# Altium schematic symbol library UVS-Schlib.SchLib: 52 symbols
Pins are listed as number, name and electrical type; pins without a type are passive.

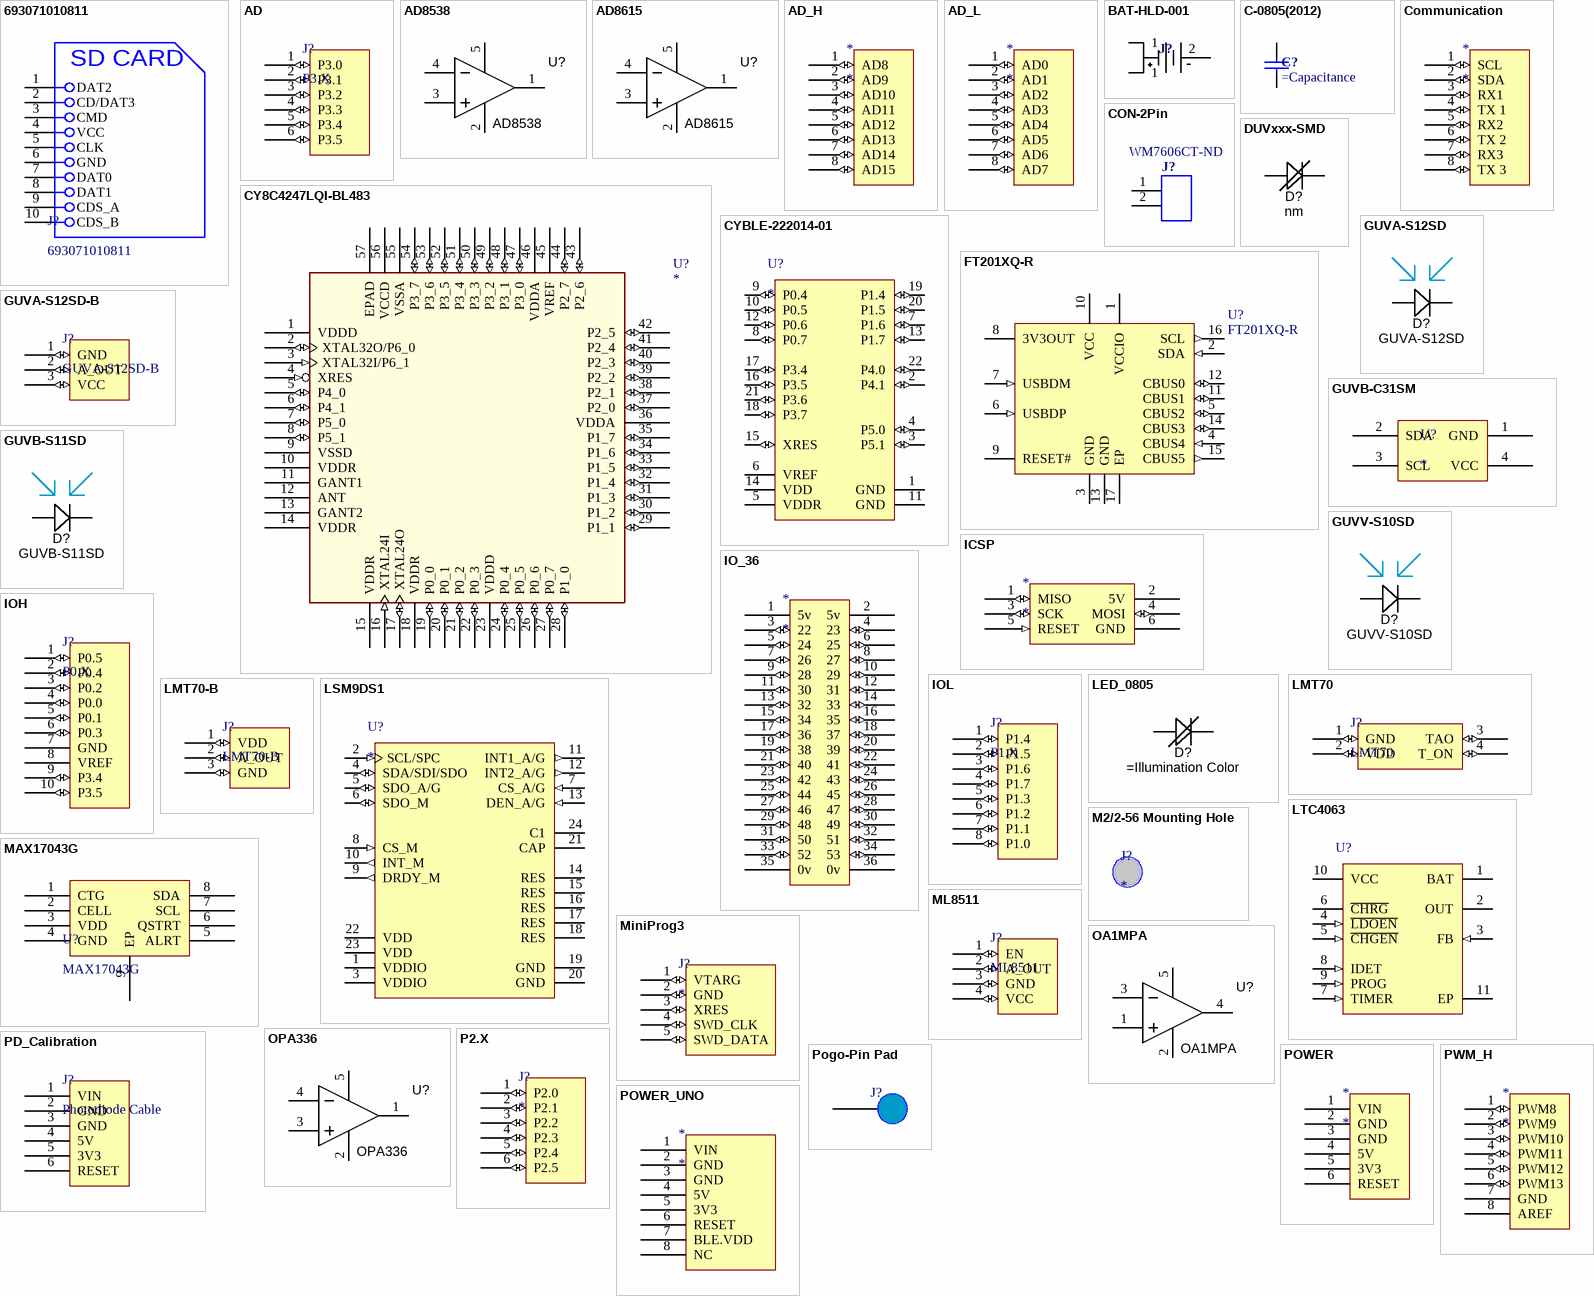
[diagram p0: symbols 693071010811 to PWM_H]

## 693071010811
designator J?
Wurth CONN MICRO SD CARD PUSH-PUSH R/A; Manufacturer: Wurth Electronics; Description 1: WURTH ELEKTRONIK         693071010811             CONNECTOR, MICRO SD, SMT, R/A, 8WAY; Connector Type: Connector; Number of Contacts: 8; Supplier 1: Digi-Key; Supplier Part Number 1: 732-3819-1-ND; Manufacturer Part Number: 693071010811; Stock 1: 4983; Pricing 1: 1=2.92, 10=2.856, 50=2.513, 100=2.399, 500=2.056 (USD); Mount: Surface Mount; Contact Material: Copper,Gold,Copper Alloy; Contact Plating: Gold; Min Operating Temperature: -25°C; Max Operating Temperature: 85°C; Package Quantity: 1; Packaging: Tape and Reel; Length: 14mm; Height: 1.98mm; Width: 15.2mm; REACH SVHC: Unknown; Lead Free: Lead Free; ComponentLink1URL: https://datasheet.ciiva.com/6935/693071010811-6935152.pdf; ComponentLink1Description: https://datasheet.ciiva.com/6935/693071010811-6935152.pdf; ComponentLink2URL: https://datasheet.ciiva.com/25605/0900766b81113f2e-25605369.pdf; ComponentLink2Description: https://datasheet.ciiva.com/25605/0900766b81113f2e-25605369.pdf; ComponentLink3URL: https://datasheet.ciiva.com/6935/693071010811-6935146.pdf; ComponentLink3Description: https://datasheet.ciiva.com/6935/693071010811-6935146.pdf; ComponentLink4URL: https://datasheet.ciiva.com/1104/1759178-1104796.pdf; ComponentLink4Description: https://datasheet.ciiva.com/1104/1759178-1104796.pdf
footprint 693071010811 (Wurth CONN MICRO SD CARD PUSH-PUSH R/A)
pins: 1     DAT2, 2     CD/DAT3, 3     CMD, 4     VCC, 5     CLK, 6     GND, 7     DAT0, 8     DAT1, 9     CDS_A, 10     CDS_B
text: SD CARD

## AD
designator J?, comment P3.X
footprint Header 6x1 8.5mm (Stackable 6 pin header)
pins: 1 P3.0 (io), 2 P3.1 (io), 3 P3.2 (io), 4 P3.3 (io), 5 P3.4 (io), 6 P3.5 (io)

## AD8538
designator U?
IC SMD Atuo-Zero Op Amp Precision, Low Power; Manufacturer: Analog Devices; Manufacturer Part Number: AD8538AUJZ-REEL7; Number of Channels: 1 Channel; Shutdown: No Shutdown; CMRR - Common Mode Rejection Ratio: 150 dB; en - Input Voltage Noise Density: 50 nV/sqrt Hz at 5 V; GBP - Gain Bandwidth Product: 430 kHz; Ib - Input Bias Current: 25 pA; Maximum Dual Supply Voltage: +/- 2.5 V; Minimum Dual Supply Voltage: +/- 1.35 V; Operating Supply Current: 180 uA; Operating Supply Voltage: 2.7 V to 5.5 V; PSRR - Power Supply Rejection Ratio: 125 dB; SR - Slew Rate: 0.4 V/us at 5 V; Supply Voltage - Max: 5.5 V; Supply Voltage - Min: 2.7 V; Voltage Gain dB: 141 dB; Vos - Input Offset Voltage: 5 uV; Supplier 1: Mouser; RoHS: RoHS Compliant; Category: Precision Amplifiers; Stock 1: 8750; Pricing 1: 1=1.39, 10=1.26, 25=1.12, 100=1.01, 250=0.900, 500=0.788, 1000=0.652, 3000=0.606, 6000=0.601 (USD); Height: 0.87 mm; Length: 2.9 mm; Package / Case: TSOT-5; Packaging: Reel; Product: Precision Amplifiers; Series: AD8538; Type: General Purpose Amplifier; Width: 1.6 mm; Brand: Analog Devices; Mounting Style: SMD/SMT; Maximum Operating Temperature: + 125 C; Minimum Operating Temperature: - 40 C; Standard Pack Qty: 3000; RoHS - Mouser: Y; Minimum Order Quantity: 1; Reeling: True; ComponentLink1URL: http://www.mouser.com/ds/2/609/AD8538_8539-877837.pdf; ComponentLink1Description: http://www.mouser.com/ds/2/609/AD8538_8539-877837.pdf; Supplier Part Number 1: 584-AD8538AUJZ-R7
footprint SOT23-5 (SOT23, 5-Leads, Body 2.9x1.7mm, Pitch 0.95mm, Lead Span 2.8mm, IPC Low Density)
pins: 1 OUT, 2 V-, 3 IN+, 4 IN-, 5 V+

## AD8615
designator U?
IC SMD Transimpedance Op Amp Precision; Manufacturer: Analog Devices; Manufacturer Part Number: AD8615AUJZ-REEL7; Output Type: Rail to Rail Input/Output; Input Voltage Range - Max: 5 V; Number of Channels: 1 Channel; Shutdown: No Shutdown; CMRR - Common Mode Rejection Ratio: 100 dB; en - Input Voltage Noise Density: 10 nV/sqrt Hz at 5 V; GBP - Gain Bandwidth Product: 24 MHz; Ib - Input Bias Current: 550 pA; Operating Supply Current: 1.7 mA; Operating Supply Voltage: 2.7 V to 5 V; Output Current per Channel: 150 mA; PSRR - Power Supply Rejection Ratio: 90 dB; SR - Slew Rate: 12 V/us; Supply Voltage - Min: 2.7 V; Voltage Gain dB: 123.52 dB; Vos - Input Offset Voltage: 80 uV; Supplier 1: Mouser; RoHS: RoHS Compliant; Category: Precision Amplifiers; Stock 1: 7346; Pricing 1: 1=2.11, 10=1.91, 25=1.71, 100=1.53, 250=1.36, 500=1.19, 1000=0.992, 3000=0.921, 6000=0.913 (USD); Height: 0.87 mm; Length: 2.9 mm; Package / Case: TSOT-5; Packaging: Reel; Product: Precision Amplifiers; Series: AD8615; Type: General Purpose Amplifier; Width: 1.6 mm; Brand: Analog Devices; Mounting Style: SMD/SMT; Maximum Operating Temperature: + 125 C; Minimum Operating Temperature: - 40 C; Standard Pack Qty: 3000; Supply Voltage - Max: 5 V; RoHS - Mouser: Y; Minimum Order Quantity: 1; Reeling: True; ComponentLink1URL: http://www.mouser.com/ds/2/609/AD8615_8616_8618-877841.pdf; ComponentLink1Description: http://www.mouser.com/ds/2/609/AD8615_8616_8618-877841.pdf; Supplier Part Number 1: 584-AD8615AUJZ-R7
footprint SOT23-5 (SOT23, 5-Leads, Body 2.9x1.7mm, Pitch 0.95mm, Lead Span 2.8mm, IPC Low Density)
pins: 1 OUT, 2 V-, 3 IN+, 4 IN-, 5 V+

## AD_H
designator *
footprint Header 8x1 8.5mm (Stackable 8 pin header)
pins: 1 AD8 (io), 2 AD9 (io), 3 AD10 (io), 4 AD11 (io), 5 AD12 (io), 6 AD13 (io), 7 AD14 (io), 8 AD15 (io)

## AD_L
designator *
footprint Header 8x1 8.5mm (Stackable 8 pin header)
pins: 1 AD0 (io), 2 AD1 (io), 3 AD2 (io), 4 AD3 (io), 5 AD4 (io), 6 AD5 (io), 7 AD6 (io), 8 AD7 (io)

## BAT-HLD-001
designator J?, comment Header 2 pin  (value not drawn)
Header, 2 pin, .1 pitch; Manufacturer: Linx; Manufacturer Part Number: BAT-HLD-001; Description 1: HOLDER BATTERY 20MM COIN; Number of Cells: 1; Supplier 1: Mouser; Supplier Part Number 1: 712-BAT-HLD-001; Stock 1: 81336; Pricing 1: 1=0.28, 10=0.28, 50=0.257, 100=0.233, 1000=0.204, 10000=0.183 (USD); Mount: Surface Mount,PCB; Package Quantity: 1000; Packaging: Bulk; Termination: SMD/SMT; Lead Free: Lead Free; ComponentLink1URL: https://datasheet.ciiva.com/4/bat-hld-001-4035.pdf; ComponentLink1Description: https://datasheet.ciiva.com/4/bat-hld-001-4035.pdf; ComponentLink2URL: https://datasheet.ciiva.com/4642/bat-hld-001-220194-4642567.pdf; ComponentLink2Description: https://datasheet.ciiva.com/4642/bat-hld-001-220194-4642567.pdf; ComponentLink3URL: https://datasheet.ciiva.com/16207/bat-hld-001-16207212.pdf; ComponentLink3Description: https://datasheet.ciiva.com/16207/bat-hld-001-16207212.pdf
footprint LINX_BATT_HLDR
pins: 1, 1, 2

## C-0805(2012)
designator C?
___ OHM ___ mW 0805(2012) SMD
footprint CAP-0805(2012)-R (Capacitor 0805(2012) Reflow)
pins: 1, 2

## Communication
designator *
footprint Header 8x1 8.5mm (Stackable 8 pin header)
pins: 1 SCL (io), 2 SDA (io), 3 RX1 (io), 4 TX 1 (io), 5 RX2 (io), 6 TX 2 (io), 7 RX3 (io), 8 TX 3 (io)

## CON-2Pin
designator J?, comment Supplier Part Number 1: WM7606CT-ND  (hidden comment: Header 2 pin)
Header, 2 pin, .1 pitch; Manufacturer: Molex, LLC; Manufacturer Part Number: 0533980271; Pitch - Mating: 0.049" (1.25mm); Style: Board to Cable/Wire; Shrouding: Shrouded - 3 Wall; Number of Positions: 2; Number of Positions Loaded: All; Material Flammability Rating: UL94 V-0; Supplier 1: Digi-Key; RoHS: RoHS Compliant; Category: Connectors, Interconnects; Stock 1: 38010; Pricing 1: 1=1.07, 10=0.941, 25=0.886, 50=0.849, 100=0.8122, 250=0.73832, 500=0.66448 (USD); Packaging: Cut Tape (CT); Part Status: Active; Connector Type: Header; Contact Type: Male Blade; Number of Rows: 1; Row Spacing - Mating: -; Mounting Type: Surface Mount; Termination: Solder; Fastening Type: Detent Lock; Contact Length - Mating: -; Contact Length - Post: -; Overall Contact Length: -; Insulation Height: 0.185" (4.70mm); Contact Shape: Rectangular; Contact Finish - Mating: Tin; Contact Finish Thickness - Mating: 39µin (1.00µm); Features: Solder Retention; Ingress Protection: -; Insulation Color: Natural; Contact Finish - Post: Tin; Contact Material: Phosphor Bronze; Insulation Material: Polyamide (PA), Nylon; Operating Temperature: -; Current Rating: -; Voltage Rating: -; Mated Stacking Heights: -; Contact Finish Thickness - Post: -; Applications: Automotive, General Purpose, Industrial, Medical; ComponentLink1URL: http://www.molex.com/pdm_docs/sd/533980271_sd.pdf; ComponentLink1Description: http://www.molex.com/pdm_docs/sd/533980271_sd.pdf
footprint WM7606CT-ND
pins: 1, 2

## CY8C4247LQI-BL483
designator U?
Manufacturer: Cypress; Manufacturer Part Number: CY8C4245LQI-483; Description 1: IC MCU 32BIT 32KB FLASH 40QFN; RAM Size: 4KB; Min Supply Voltage: 1.71V; Max Supply Voltage: 5.5V; Number of Timers/Counters: 4; Operating Supply Voltage: 1.8V; Frequency: 48MHz; Interface: I2C,SPI,UART; Data Bus Width: 32b; Number of I/Os: 34; Watchdog Timer: Yes; Memory Type: SRAM,FLASH; Memory Size: 32KB; Peripherals: PWM,I2C; Core Architecture: ARM; Supplier 1: Digi-Key; Supplier Part Number 1: CY8C4245LQI-483-ND; Stock 1: 11906; Pricing 1: 1=4.28, 10=3.825, 25=3.4424, 100=3.1365, 250=2.8305, 500=2.5398, 1000=2.142, 2500=2.0349, 5000=1.9584 (USD); Mount: Surface Mount; Case/Package: QFN EP; Number of Pins: 40; Weight: 0.004138oz; Contact Plating: Nickel,Gold; Min Operating Temperature: -40°C; Max Operating Temperature: 85°C; Packaging: Tray; Package Quantity: 490; Max Frequency: 48MHz; Radiation Hardening: No; REACH SVHC: No SVHC; Lead Free: Lead Free; ComponentLink1URL: https://datasheet.ciiva.com/26911/getdatasheetpartid-718692-26911745.pdf; ComponentLink1Description: https://datasheet.ciiva.com/26911/getdatasheetpartid-718692-26911745.pdf; ComponentLink2URL: https://datasheet.ciiva.com/22658/1699500-22658213.pdf; ComponentLink2Description: https://datasheet.ciiva.com/22658/1699500-22658213.pdf; ComponentLink3URL: https://datasheet.ciiva.com/16431/001-87197-16431545.pdf; ComponentLink3Description: https://datasheet.ciiva.com/16431/001-87197-16431545.pdf; ComponentLink4URL: https://datasheet.ciiva.com/30028/001-87197-30028665.pdf; ComponentLink4Description: https://datasheet.ciiva.com/30028/001-87197-30028665.pdf
footprint QFN40P700X700X60-57N
pins: 1 VDDD (power), 2 XTAL32O/P6_0 (io), 3 XTAL32I/P6_1 (in), 4 XRES (in), 5 P4_0 (io), 6 P4_1 (io), 7 P5_0 (io), 8 P5_1 (io), 9 VSSD (power), 10 VDDR (power), 11 GANT1 (power), 12 ANT, 13 GANT2 (power), 14 VDDR (power), 15 VDDR (power), 16 XTAL24I (in), 17 XTAL24O (io), 18 VDDR (power), 19 P0_0 (io), 20 P0_1 (io), 21 P0_2 (io), 22 P0_3 (io), 23 VDDD (power), 24 P0_4 (io), 25 P0_5 (io), 26 P0_6 (io), 27 P0_7 (io), 28 P1_0 (io), 29 P1_1 (io), 30 P1_2 (io), 31 P1_3 (io), 32 P1_4 (io), 33 P1_5 (io), 34 P1_6 (io), 35 P1_7 (io), 36 VDDA (power), 37 P2_0 (io), 38 P2_1 (io), 39 P2_2 (io), 40 P2_3 (io), 41 P2_4 (io), 42 P2_5 (io), 43 P2_6 (io), 44 P2_7 (io), 45 VREF (power), 46 VDDA (power), 47 P3_0 (io), 48 P3_1 (io), 49 P3_2 (io), 50 P3_3 (io), 51 P3_4 (io), 52 P3_5 (io), 53 P3_6 (io), 54 P3_7 (io), 55 VSSA (power), 56 VCCD (power), 57 EPAD (power)

## CYBLE-222014-01
designator U?
Manufacturer: Cypress; Manufacturer Part Number: CYBLE-222014-01; Description 1: Bluetooth Class II 1.8V to 5.5V 1000Kbps 22-Pin SMD T/R; Frequency: 2.4GHz; Data Rate: 1Mbps; Sensitivity: -91dBm; Memory Size: 32KB; Interface: I2C,SPI,UART; Current - Receiving: 16.4mA; Current - Transmitting: 15.6mA; Operating Supply Voltage: 5.5V; Supplier 1: Digi-Key; Supplier Part Number 1: 428-3583-1-ND; Stock 1: 1017; Pricing 1: 1=14.77, 10=13.367, 25=12.3112, 100=11.256, 250=10.5525 (USD); Mount: Surface Mount; Case/Package: SMD/SMT; Min Operating Temperature: -40°C; Max Operating Temperature: 85°C; Packaging: Tape and Reel; ComponentLink1URL: http://www.cypress.com/file/230691/download; ComponentLink1Description: http://www.cypress.com/file/230691/download
footprint CYP-SP21_V (Module, 2-Leads, Body 10x10mm)
pins: 1 GND (power), 2 P4.1 (io), 3 P5.1 (io), 4 P5.0 (io), 5 VDDR (power), 6 VREF (power), 7 P1.6 (io), 8 P0.7 (io), 9 P0.4 (io), 10 P0.5 (io), 11 GND (power), 12 P0.6 (io), 13 P1.7 (io), 14 VDD (power), 15 XRES (io), 16 P3.5 (io), 17 P3.4 (io), 18 P3.7 (io), 19 P1.4 (io), 20 P1.5 (io), 21 P3.6 (io), 22 P4.0 (io)

## DUVxxx-SMD
designator D?, comment nm
SMD 3020 UV Wavelength; Wavelength: 265/280/310/325/340; Category: Optoelectronics; Color: UV
footprint SMD 3020
pins: A, K

## FT201XQ-R
designator U?
USB to I2C Interface Chip, UHCI/OHCI/EHCI Compatible, USB 2.0 Compatible, -40 to +85 degC, 16-Pin QFN, Pb-Free, Tape and Reel; Manufacturer: FTDI; Description 1: IC USB FS I2C 16QFN; Operating Supply Voltage: 5.5V; Data Rate: 12Mbps; Interface: I2C,USB; Operating Supply Current: 8mA; Supplier 1: Digi-Key; Supplier Part Number 1: 768-1131-1-ND; Manufacturer Part Number: FT201XQ-R; Stock 1: 2248; Pricing 1: 1=2.04, 25=1.97, 100=1.9, 250=1.71, 500=1.54, 1000=1.4806 (USD); Mount: Surface Mount; Case/Package: QFN; Number of Pins: 16; Weight: 0.002014oz; Min Operating Temperature: -40°C; Max Operating Temperature: 85°C; Packaging: Tape and Reel; Package Quantity: 5000; Length: 4mm; Height: 0.75mm; Width: 4mm; Lead Free: Lead Free; ComponentLink1URL: https://datasheet.ciiva.com/14668/0900766b811020ab-14668386.pdf; ComponentLink1Description: https://datasheet.ciiva.com/14668/0900766b811020ab-14668386.pdf; ComponentLink2URL: https://datasheet.ciiva.com/1784/ft-x-series-1784572.pdf; ComponentLink2Description: https://datasheet.ciiva.com/1784/ft-x-series-1784572.pdf; ComponentLink3URL: https://datasheet.ciiva.com/1784/ft-x-series-1784573.pdf; ComponentLink3Description: https://datasheet.ciiva.com/1784/ft-x-series-1784573.pdf; ComponentLink4URL: https://datasheet.ciiva.com/1784/ft-x-series-1784574.pdf; ComponentLink4Description: https://datasheet.ciiva.com/1784/ft-x-series-1784574.pdf
footprint QFN-16
pins: 1 VCCIO (power) "1V8 -3V3 supply for the IO cells.", 2 SDA (in) "Receiving Asynchronous Data Input.", 3 GND (power) "0V Ground input.", 4 CBUS4 (in) "Clear To Send Control Input / Handshake Signal.", 5 CBUS2 (io) "Configurable CBUS I/O Pin. Function of this pin is configured in the device MTP memory. The default configuration is TXLED#.", 6 USBDP (in) "USB Data Signal Plus.", 7 USBDM (in) "USB Data Signal Minus.", 8 3V3OUT (power) "3V3 output at 50mA. May be used to power VCCIO. When VCC is 3V3; pin 8 is an input pin and should be connected to pin 10.", 9 RESET# "Reset input (active low).", 10 VCC (power) "5 V (or 3V3) supply to IC.", 11 CBUS1 (io) "Configurable CBUS I/O Pin. Function of this pin is configured in the device MTP memory. The default configuration is RXLED#.", 12 CBUS0 (io) "Configurable CBUS I/O Pin. Function of this pin is configured in the device MTP memory. The default configuration is TXDEN.", 13 GND (power) "0V Ground input.", 14 CBUS3 (io) "Configurable CBUS I/O Pin. Function of this pin is configured in the device MTP memory. The default configuration is SLEEP#.", 15 CBUS5 (out) "Request to Send Control Output / Handshake Signal.", 16 SCL (out) "Transmit Asynchronous Data Output.", 17 EP (power) "Exposed Pad. Connect to GND."

## GUVA-S12SD
designator D?
UV Photodiode, 3528 SMD
footprint SMD 3528
pins: A, K

## GUVA-S12SD-B
designator J?
UV Light Sensor Breakout Board
footprint Header 3x1 8.5mm (Stackable 3 pin header)
pins: 1 GND (io), 2 A_OUT (io), 3 VCC (io)

## GUVB-C31SM
designator U?
footprint GUVB-C31SM
pins: 1 GND, 2 SDA, 3 SCL, 4 VCC

## GUVB-S11SD
designator D?
UV Photodiode, 3528 SMD
footprint SMD 3528
pins: A, K

## GUVV-S10SD
designator D?
UV Photodiode, 3528 SMD
footprint SMD 3528
pins: A, K

## ICSP
designator *
footprint ICSP
pins: 1 MISO (io), 2 5V (power), 3 SCK (io), 4 MOSI (io), 5 RESET (in), 6 GND (power)

## IO_36
designator *
footprint HEADER 36X 8MM (Stackable 10 pin header)
pins: 1 5v (power), 2 5v (power), 3 22 (io) "Digital 22", 4 23 (io) "Digital 23", 5 24 (io) "Digital 24", 6 25 (io) "Digital 25", 7 26 (io) "Digital 26", 8 27 (io) "Digital 27", 9 28 (io) "Digital 28", 10 29 (io) "Digital 29", 11 30 (io) "Digital 30", 12 31 (io) "Digital 31", 13 32 (io) "Digital 32", 14 33 (io) "Digital 33", 15 34 (io) "Digital 34", 16 35 (io) "Digital 35", 17 36 (io) "Digital 36", 18 37 (io) "Digital 37", 19 38 (io) "Digital 38", 20 39 (io) "Digital 39", 21 40 (io) "Digital 40", 22 41 (io) "Digital 41", 23 42 (io) "Digital 42", 24 43 (io) "Digital 43", 25 44 (io) "Digital 44", 26 45 (io) "Digital 45", 27 46 (io) "Digital 46", 28 47 (io) "Digital 47", 29 48 (io) "Digital 48", 30 49 (io) "Digital 49", 31 50 (io) "Digital 50", 32 51 (io) "Digital 51", 33 52 (io) "Digital 52", 34 53 (io) "Digital 53", 35 0v (power), 36 0v (power)

## IOH
designator J?, comment P0.X
footprint Header 10x1 8.5mm (Stackable 10 pin header)
pins: 1 P0.5 (io), 2 P0.4 (io), 3 P0.2 (io), 4 P0.0 (io), 5 P0.1 (io), 6 P0.3 (io), 7 GND (power), 8 VREF, 9 P3.4 (io), 10 P3.5 (io)

## IOL
designator J?, comment P1.X
footprint Header 8x1 8.5mm (Stackable 8 pin header)
pins: 1 P1.4 (io), 2 P1.5 (io), 3 P1.6 (io), 4 P1.7 (io), 5 P1.3 (io), 6 P1.2 (io), 7 P1.1 (io), 8 P1.0 (io)

## LED_0805
designator D?
LED, 0805 SMD
footprint LED-0805-A
pins: A, K

## LMT70
designator J?
Precision Analog Temperature Sensor
pins: 1 GND (io), 2 VDD (io), 3 TAO (io), 4 T_ON (io)

## LMT70-B
designator J?
Precision Analog Temperature Sensor
footprint Header 3x1 8.5mm (Stackable 3 pin header)
pins: 1 VDD (io), 2 A_OUT (io), 3 GND (io)

## LSM9DS1
designator U?
Manufacturer: STMicroelectronics; Manufacturer Part Number: LSM9DS1TR; Description 1: STMICROELECTRONICS         LSM9DS1TR             MEMS Module, I2C/SPI, Tri-Axis Gyroscope, Tri-Axis Accelerometer, Tri-Axis Magnetometer, 1.9 V; Sensor Type: Accelerometer,Gyroscope,Magnetometer,3 Axis; Min Supply Voltage: 1.9V; Max Supply Voltage: 3.6V; Output Type: SPI,I2C; Supplier 1: Mouser; Supplier Part Number 1: 511-LSM9DS1TR; Stock 1: 5520; Pricing 1: 1=6.14, 10=5.55, 50=5.3, 100=4.6, 1000=3.49, 10000=3.1 (USD); Case/Package: LGA; Number of Pins: 24; Min Operating Temperature: -40°C; Max Operating Temperature: 85°C; Packaging: Cut Tape; Lead Free: Lead Free; REACH SVHC: No SVHC; ComponentLink1URL: http://www.farnell.com/datasheets/2028150.pdf; ComponentLink1Description: http://www.farnell.com/datasheets/2028150.pdf; ComponentLink2URL: http://www.st.com/content/ccc/resource/technical/document/datasheet/1e/3f/2a/d6/25/eb/48/46/DM00103319.pdf/files/DM00103319.pdf/jcr:content/translations/en.DM00103319.pdf; ComponentLink2Description: http://www.st.com/content/ccc/resource/technical/document/datasheet/1e/3f/2a/d6/25/eb/48/46/DM00103319.pdf/files/DM00103319.pdf/jcr:content/translations/en.DM00103319.pdf; ComponentLink3URL: https://www.mouser.com/ds/2/389/lsm9ds1-955071.pdf; ComponentLink3Description: https://www.mouser.com/ds/2/389/lsm9ds1-955071.pdf
footprint STM-LGA-24 (LGA, 24-Leads, Body 3.65x3.15mm, Pitch 0.43mm)
pins: 1 VDDIO (power) "Power supply for I/O pins", 2 SCL/SPC (in), 3 VDDIO (power) "Power supply for I/O pins", 4 SDA/SDI/SDO (io), 5 SDO_A/G (io), 6 SDO_M (io) "SPI serial data output (SDO) for the magnetometer. I2C least significant bit of the device address (SA0) for the magnetometer", 7 CS_A/G (in), 8 CS_M (in) "SPI enable. I2C/SPI mode selection for the magnetometer (1: SPI idle mode / I2C communication enabled; 0: SPI communication mode / I2C disabled)", 9 DRDY_M (out) "Magnetic sensor data ready", 10 INT_M (out) "Magnetic sensor interrupt", 11 INT1_A/G (out), 12 INT2_A/G (out), 13 DEN_A/G (in), 14 RES "Reserved. Connected to GND.", 15 RES "Reserved. Connected to GND.", 16 RES "Reserved. Connected to GND.", 17 RES "Reserved. Connected to GND.", 18 RES "Reserved. Connected to GND.", 19 GND (power) "0 V supply", 20 GND (power) "0 V supply", 21 CAP "Connected to GND with ceramic capacitor", 22 VDD (power) "Power supply", 23 VDD (power) "Power supply", 24 C1 "Capacitor connection (C1 = 100 nF)"

## LTC4063
designator U?
Manufacturer: Analog Devices / Linear Technology; Manufacturer Part Number: LTC4063EDD#PBF; Description 1: LINEAR TECHNOLOGY         LTC4063EDD#PBF            IC, BATT CHARGER, W/MP LDO, 10DFN; Number of Cells: 1; Max Supply Voltage: 8V; Min Supply Voltage: 4.3V; Output Current: 800uA; Output Voltage: 4.2V; Max Charge Current: 1A; Supplier 1: Digi-Key; Supplier Part Number 1: LTC4063EDD#PBF-ND; Stock 1: 576; Pricing 1: 1=4.36, 25=2.8928, 100=2.2848 (USD); Case/Package: DFN EP; Number of Pins: 10; Min Operating Temperature: -40°C; Max Operating Temperature: 85°C; Package Quantity: 121; Packaging: Rail/Tube; Max Input Voltage: 8V; Min Input Voltage: 4.3V; Radiation Hardening: No; REACH SVHC: No SVHC; Lead Free: Lead Free; ComponentLink1URL: https://datasheet.ciiva.com/1139/1716146-1139992.pdf; ComponentLink1Description: https://datasheet.ciiva.com/1139/1716146-1139992.pdf; ComponentLink2URL: https://datasheet.ciiva.com/1145/79586-1145020.pdf; ComponentLink2Description: https://datasheet.ciiva.com/1145/79586-1145020.pdf; ComponentLink3URL: https://datasheet.ciiva.com/15114/getdatasheetpartid-366882-15114670.pdf; ComponentLink3Description: https://datasheet.ciiva.com/15114/getdatasheetpartid-366882-15114670.pdf; ComponentLink4URL: https://datasheet.ciiva.com/48696/001255656-da-01-en-ic-batt-chrgr-ltc4063edd-pbf-dfn-10-ltc-48696044.pdf; ComponentLink4Description: https://datasheet.ciiva.com/48696/001255656-da-01-en-ic-batt-chrgr-ltc4063edd-pbf-dfn-10-ltc-48696044.pdf
footprint LT-DD-10_V (SON, 10-Leads, Body 3x3mm, Pitch 0.5mm, Thermal Pad 2.38x1.65mm)
pins: 1 BAT (power) "Charger Output and Regulator Input. This pin provides charge current to the battery and regulates the final float voltage to 4.2V. This pin also supplies power to the LDO regulator.", 2 OUT (power) "LDO Regulator Output. This pin should be bypassed with a >=2uF low ESR capacitor as close to the pin as possible for best performance. The minimum VOUT is 1.2V.", 3 FB (in) "Regulator Feedback Input. The voltage on this pin is compared to the internal reference voltage (800mV) by the error amplifier to keep the output voltage in regulation. An external resistor divider between OUT and FB sets (See Datasheet)", 4 ~{LDOEN} (in) "LDO Enable Input. A logic high on the L\D\O\E\N\ pin shuts down the LDO. In this state, OUT becomes high impedance and the battery drain current drops to less than 5uA. A logic low on the L\D\O\E\N\ pin enables the LDO (See Datasheet)", 5 ~{CHGEN} (in) "Charger Enable Input. A logic high on the C\H\G\E\N\ pin places the charger into shutdown mode, where the ICC quiescent current is less than 65uA. A logic low on this pin enables battery charging. A 2M pull-down resistor to (See Datasheet)", 6 ~{CHRG} (hiz) "Open-Drain Charge Status Output. The charge status indicator pin has two states: pull-down and high impedance. This output can be used as a logic interface or an LED driver. In the pull-down state, an NMOS transistor capable (See Datasheet)", 7 TIMER (in) "Timer Program and Termination Select Pin. This pin selects which method is used to terminate the charge cycle. Connecting a capacitor, CTIMER, to ground selects Charge Time termination.", 8 IDET (in) "Current Detection Threshold Program Pin. The current detection threshold, IDETECT, is set by connecting a resistor, RDET, to ground.", 9 PROG (in) "Charge Current Program and Charge Current Monitor. The charge current is set by connecting a resistor, RPROG, to ground. When charging in constant current mode, this pin servos to 1V.", 10 VCC (power) "Positive Input Supply Pin. Provides power to the battery charger. This pin should be bypassed with a 1uF capacitor.", 11 EP (power) "Ground. This pin is the back of the Exposed Pad package and must be soldered to the PCB copper for minimal thermal resistance."

## M2/2-56 Mounting Hole
designator J?
footprint Mounting Hole (M2 or 2-56 Mounting Hole)

## MAX17043G
designator U?
Manufacturer: Maxim; Manufacturer Part Number: MAX17043G+T; Description 1: IC 2-WIRE FG MODEL GAUGE LO BATT; Supplier 1: Mouser; Supplier Part Number 1: 700-MAX17043G+T; Stock 1: 10717; Pricing 1: 1=3.67, 10=3.52, 50=1.85, 100=1.7, 1000=1.66, 10000=1.66 (USD); Mount: Surface Mount; Number of Pins: 8; Contact Plating: Tin,Matte; Min Operating Temperature: -20°C; Max Operating Temperature: 70°C; Packaging: Tape and Reel; Package Quantity: 10000; Radiation Hardening: No; ComponentLink1URL: https://datasheet.ciiva.com/1935/max17043-max17044-1935697.pdf; ComponentLink1Description: https://datasheet.ciiva.com/1935/max17043-max17044-1935697.pdf
footprint TDFN-MN8 (SON, 8-Leads, Body 2x3mm, Pitch 0.5mm, Microchip Recommended)
pins: 1 CTG, 2 CELL, 3 VDD, 4 GND, 5 ALRT, 6 QSTRT, 7 SCL, 8 SDA, 9 EP

## MiniProg3
designator J?
footprint Header 5x1 8.5mm (Stackable 5 pin header)
pins: 1 VTARG (io), 2 GND (io), 3 XRES (io), 4 SWD_CLK (io), 5 SWD_DATA (io)

## ML8511
designator J?
UV Light Sensor Breakout Board
footprint Header 4x1 8.5mm (Stackable 4 pin header)
pins: 1 EN (io), 2 A_OUT (io), 3 GND (io), 4 VCC (io)

## OA1MPA
designator U?
Manufacturer: STMicroelectronics; Manufacturer Part Number: OA1MPA22C; Slew Rate: 0.06V/µs; Number of Circuits: 1; Gain Bandwidth Product: 150KHz; Input Bias Current: 1pA; Input Offset Voltage (Vos): 200uV; Operating Supply Current: 10uA; Output Current per Channel: 56mA; Supply Voltage: 5.5V; Supplier 1: Mouser; Stock 1: 242; Pricing 1: 1=1.27, 10=1.08, 50=1.08, 100=0.832, 1000=0.58, 10000=0.494 (USD); Case/Package: SC; Number of Pins: 5; Min Operating Temperature: -40°C; Max Operating Temperature: 125°C; Package Quantity: 3000; Packaging: Tape and Reel; Bandwidth: 150KHz; Number of Amplifiers: 1; Length: 2.2mm; Height: 1mm; Width: 1.35mm; REACH SVHC: No SVHC; Lead Free: Lead Free; ComponentLink1Description: https://datasheet.ciiva.com/29638/dm00109015-29638347.pdf; Supplier Part Number 1: 511-OA1MPA22C
footprint SC70-5L (SC70, 5-Leads, Body 2.20x2.7mm, Pitch 0.65mm)
pins: 1 OUT, 2 V-, 3 IN+, 4 IN-, 5 V+

## OPA336
designator U?
Manufacturer: Texas Instruments; Manufacturer Part Number: OPA336NA/3K; Amplifier Type: Low Power Amplifier; Input Type: Rail-to-Rail; Supply Type: Single; Number of Channels: 1 Channel; Shutdown: No Shutdown; CMRR - Common Mode Rejection Ratio: 76 dB to 86 dB; en - Input Voltage Noise Density: 40 nV/sqrt Hz; GBP - Gain Bandwidth Product: 100 kHz; Ib - Input Bias Current: 10 pA; In - Input Noise Current Density: 30 fA/sqrt Hz; Operating Supply Current: 20 uA; Operating Supply Voltage: 2.3 V to 5.5 V; PSRR - Power Supply Rejection Ratio: 25 uV/V; SR - Slew Rate: 0.03 V/us; Supply Voltage - Max: 5.5 V; Supply Voltage - Min: 2.3 V; Voltage Gain dB: 115 dB; Vos - Input Offset Voltage: 0.125 mV; Supplier 1: Mouser; RoHS: RoHS Compliant; Category: Operational Amplifiers - Op Amps; Stock 1: 11756; Pricing 1: 1=1.72, 10=1.55, 25=1.47, 100=1.24, 250=1.17, 500=1.02, 1000=0.731, 3000=0.731 (USD); Height: 1.15 mm; Length: 2.9 mm; Output Type: Rail-to-Rail; Package / Case: SOT-23-5; Packaging: Reel; Product: Precision Amplifiers; Series: OPA336; Technology: CMOS; Width: 1.6 mm; Brand: Texas Instruments; Mounting Style: SMD/SMT; Ios - Input Offset Current: 10 pA; Maximum Operating Temperature: + 85 C; Minimum Operating Temperature: - 40 C; Standard Pack Qty: 3000; RoHS - Mouser: Y; Minimum Order Quantity: 1; Reeling: True; Supplier Part Number 1: 595-OPA336NA/3K
footprint SOT23-5 (SOT23, 5-Leads, Body 2.9x1.7mm, Pitch 0.95mm, Lead Span 2.8mm, IPC Low Density)
pins: 1 OUT, 2 V-, 3 IN+, 4 IN-, 5 V+

## P2.X
designator J?
footprint Header 6x1 8.5mm (Stackable 6 pin header)
pins: 1 P2.0 (io), 2 P2.1 (io), 3 P2.2 (io), 4 P2.3 (io), 5 P2.4 (io), 6 P2.5 (io)

## PD_Calibration
designator J?, comment Photodiode Cable
footprint Header 6x1 8.5mm (Stackable 6 pin header)
pins: 1 VIN (power), 2 GND (power), 3 GND (power), 4 5V (power), 5 3V3 (power), 6 RESET

## Pogo-Pin Pad
designator J?  (value not drawn)
Manufacturer: Harwin; Manufacturer Part Number: P13-2123; Description 1: HARWIN         P13-2123             PROBE, CONVEX, 1.27MM PITCH; Body Material: Bronze; Body Plating: Gold; Resistance: 0.03R; Current Rating: 3A; Contact Resistance: 30mR; Gender: Male; Mating Cycles: 1000000; Supplier 1: Mouser; Supplier Part Number 1: 855-P13-2123; Stock 1: 1373; Pricing 1: 1=3.36, 10=3.22, 50=2.82, 100=2.69, 1000=1.95, 10000=1.82 (USD); Material: Bronze; Contact Material: Copper; Min Operating Temperature: -40°C; Max Operating Temperature: 85°C; Package Quantity: 500; Length: 0.652inch; Depth: 1mm; Radiation Hardening: No; REACH SVHC: No SVHC; ComponentLink1URL: https://datasheet.ciiva.com/1454/1498711-1454531.pdf; ComponentLink1Description: https://datasheet.ciiva.com/1454/1498711-1454531.pdf; ComponentLink2URL: https://datasheet.ciiva.com/5229/p13-xx23-351008-5229722.pdf; ComponentLink2Description: https://datasheet.ciiva.com/5229/p13-xx23-351008-5229722.pdf
footprint Pogo-Pin-Hole
pins: 1

## POWER
designator *
footprint Header 6x1 8.5mm (Stackable 6 pin header)
pins: 1 VIN (power), 2 GND (power), 3 GND (power), 4 5V (power), 5 3V3 (power), 6 RESET

## POWER_UNO
designator *
footprint Header 8x1 8.5mm (Stackable 8 pin header)
pins: 1 VIN (power), 2 GND (power), 3 GND (power), 4 5V (power), 5 3V3 (power), 6 RESET, 7 BLE.VDD (power) "IOREF", 8 NC

## PWM_H
designator *
footprint Header 8x1 8.5mm (Stackable 8 pin header)
pins: 1 PWM8 (io) "PWM 8", 2 PWM9 (io) "PWM 9", 3 PWM10 (io) "PWM 10", 4 PWM11 (io) "PWM 11", 5 PWM12 (io) "PWM 12", 6 PWM13 (io) "PWM 13", 7 GND (power), 8 AREF

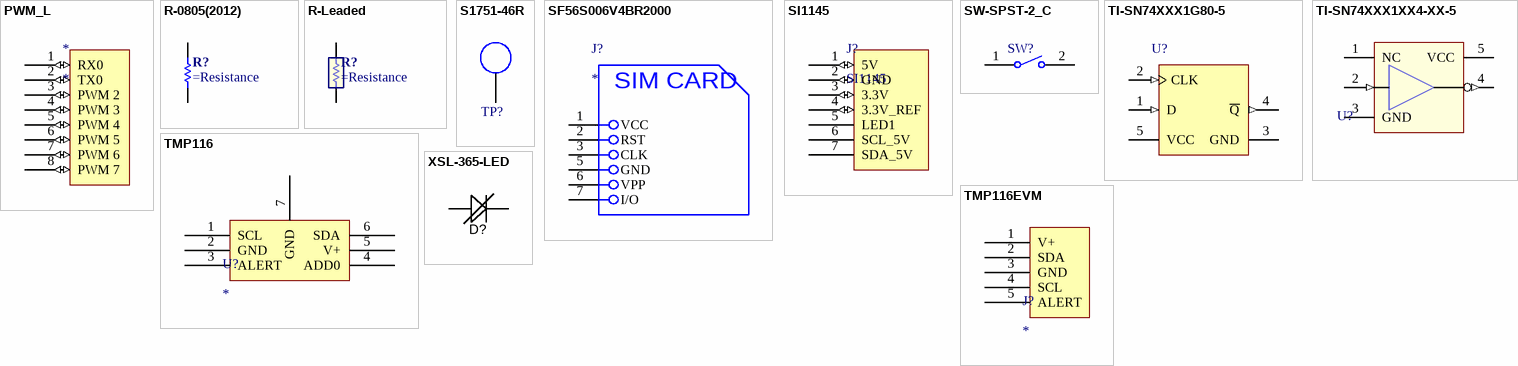
[diagram p1: symbols PWM_L to XSL-365-LED]

## PWM_L
designator *
footprint Header 8x1 8.5mm (Stackable 8 pin header)
pins: 1 RX0 (io) "PWM 0 & RX0", 2 TX0 (io) "PWM 1 & TX0", 3 PWM 2 (io), 4 PWM 3 (io), 5 PWM 4 (io), 6 PWM 5 (io), 7 PWM 6 (io), 8 PWM 7 (io)

## R-0805(2012)
designator R?
___ OHM ___ mW 0805(2012) SMD
footprint R-0805(2012)-R (Resistor 0805(2012) Reflow)
pins: 1, 2

## R-Leaded
designator R?
___ OHM ___ mW Leaded
footprint R-Leaded (250 mW Leaded Resistor)
pins: 1, 2

## S1751-46R
designator TP?  (value not drawn)
PC TEST POINT TIN SMD; Manufacturer: Harwin Inc.; Supplier 1: Digi-Key; RoHS: RoHS Compliant; Stock 1: 275112; Pricing 1: 1=0.29, 10=0.272, 25=0.2324, 50=0.2032, 100=0.1888, 250=0.167, 500=0.15972, 1000=0.13068 (USD); Packaging: Cut Tape (CT); Type: PC Test Point; Terminal: 0.128" x 0.065" x 0.079" (3.25mm x 1.65mm x 2.00mm) Brass, Tin Plated; Mounting Type: Surface Mount; Material: Copper Alloy; Color: Natural; ComponentLink1URL: http://cdn.harwin.com/pdfs/S1751.pdf; ComponentLink1Description: http://cdn.harwin.com/pdfs/S1751.pdf; Supplier Part Number 1: 952-1478-1-ND; Manufacturer Part Number: S1751-46R; Category: Test and Measurement
footprint S1751-46R (PC TEST POINT TIN SMD)
pins: 1

## SF56S006V4BR2000
designator J?
Micro SIM Connector Push-Push
footprint 5033981892 (Micro SD, 8-Leads, Body 11.95x11.4mm, Pitch 1.1mm)
pins: 1     VCC, 2     RST, 3     CLK, 5     GND, 6     VPP, 7     I/O
text: SIM CARD

## SI1145
designator J?
UV Light Sensor Digital
footprint Header 7x1 8.5mm (Stackable 7 pin header)
pins: 1 5V (io), 2 GND (io), 3 3.3V (io), 4 3.3V_REF (io), 5 LED1, 6 SCL_5V, 7 SDA_5V

## SW-SPST-2_C
designator SW?  (value not drawn)
Manufacturer: Omron; Manufacturer Part Number: B3U-3000P; Description 1: OMRON ELECTRONIC COMPONENTS         B3U-3000P            Tactile Switch, Non Illuminated, 1.59 N, 12 V, 50 mA, Solder, B3U Series; Mechanical Life: 100000Cycles; Operating Force: 1.59N; Contact Resistance: 100mR; Throw Configuration: SPST; Max Current Rating: 50mA; Voltage Rating (DC): 12V; Illumination Type: Non-Illuminated,Illuminated; Switch Travel: 0.2mm; Switch Function: Off-Mom; Actuator Length: 0.7mm; IP Rating: IP40,Dust Proof; Supplier 1: Mouser; Supplier Part Number 1: 653-B3U-3000P; Stock 1: 4217; Pricing 1: 1=0.97, 10=0.961, 50=0.798, 100=0.725, 1000=0.526, 10000=0.445 (USD); Mount: Surface Mount; Weight: 0.022g; Contact Material: Silver; Min Operating Temperature: -25°C; Max Operating Temperature: 70°C; Packaging: Tape and Reel; Package Quantity: 1; Max Voltage Rating (DC): 12V; Contact Current Rating: 50mA; Current Rating: 50mA; Termination: SMD/SMT; Electrical Life: 100000Cycles; Orientation: Right Angle; Insulation Resistance: 100MR; Length: 4mm; Depth: 3.2mm; REACH SVHC: Unknown; Lead Free: Lead Free; ComponentLink1URL: https://datasheet.ciiva.com/1634/60838-1634400.pdf; ComponentLink1Description: https://datasheet.ciiva.com/1634/60838-1634400.pdf; ComponentLink2URL: https://datasheet.ciiva.com/2900/b3u-1110-2900035.pdf; ComponentLink2Description: https://datasheet.ciiva.com/2900/b3u-1110-2900035.pdf; ComponentLink3URL: https://datasheet.ciiva.com/2900/b3u-1110-2900036.pdf; ComponentLink3Description: https://datasheet.ciiva.com/2900/b3u-1110-2900036.pdf; ComponentLink4URL: https://datasheet.ciiva.com/2900/b3u-1110-2900037.pdf; ComponentLink4Description: https://datasheet.ciiva.com/2900/b3u-1110-2900037.pdf; ComponentLink5URL: https://datasheet.ciiva.com/1532/60838-1532682.pdf; ComponentLink5Description: https://datasheet.ciiva.com/1532/60838-1532682.pdf; ComponentLink6URL: https://datasheet.ciiva.com/16863/70176037-16863994.pdf; ComponentLink6Description: https://datasheet.ciiva.com/16863/70176037-16863994.pdf; ComponentLink7URL: https://datasheet.ciiva.com/14142/b3u-eng-datasheet-14142542.pdf; ComponentLink7Description: https://datasheet.ciiva.com/14142/b3u-eng-datasheet-14142542.pdf; ComponentLink8URL: https://datasheet.ciiva.com/30158/en-b3u-30158606.pdf; ComponentLink8Description: https://datasheet.ciiva.com/30158/en-b3u-30158606.pdf
footprint OMRON-B3U-3000P_V (SMD, 2-Leads, Body 4x3.2mm)
pins: 1, 2

## TI-SN74XXX1G80-5
designator U?
Manufacturer: Texas Instruments; Manufacturer Part Number: SN74AUP1G80DBVR; Description 1: IC D-TYPE POS TRG SNGL SOT23-5; Frequency: 280MHz; Propagation Delay: 17.7ns; Polarity: Inverting; Number of Bits: 1; Logic Function: D-Type; Clock Edge Trigger Type: Positive Edge; Max Supply Voltage: 3.6V; Min Supply Voltage: 800mV; Turn-On Delay Time: 3.1ns; High Level Output Current: -4mA; Low Level Output Current: 4mA; Supplier 1: Mouser; Supplier Part Number 1: 595-SN74AUP1G80DBVR; Stock 1: 3731; Pricing 1: 1=0.35, 10=0.266, 50=0.266, 100=0.144, 1000=0.108, 10000=0.087 (USD); Mount: Surface Mount; Case/Package: SOT-23; Number of Pins: 5; Weight: 0.000395oz; Min Operating Temperature: -40°C; Max Operating Temperature: 85°C; Packaging: Tape and Reel; Number of Outputs: 1; Package Quantity: 3000; Number of Elements: 1; Number of Bits per Element: 1; Number of Circuits: 1; Number of Input Lines: 1; Number of Output Lines: 1; Radiation Hardening: No; REACH SVHC: No SVHC; Lead Free: Lead Free; ComponentLink1URL: https://datasheet.ciiva.com/15091/getdatasheetpartid-194395-15091600.pdf; ComponentLink1Description: https://datasheet.ciiva.com/15091/getdatasheetpartid-194395-15091600.pdf; ComponentLink2URL: https://datasheet.ciiva.com/1854/sn74aup1g80-1854806.pdf; ComponentLink2Description: https://datasheet.ciiva.com/1854/sn74aup1g80-1854806.pdf; ComponentLink3URL: https://datasheet.ciiva.com/1854/sn74aup1g80-1854807.pdf; ComponentLink3Description: https://datasheet.ciiva.com/1854/sn74aup1g80-1854807.pdf; ComponentLink4URL: https://datasheet.ciiva.com/1854/sn74aup1g80-1854808.pdf; ComponentLink4Description: https://datasheet.ciiva.com/1854/sn74aup1g80-1854808.pdf; ComponentLink5URL: https://datasheet.ciiva.com/14313/sces593e-14313482.pdf; ComponentLink5Description: https://datasheet.ciiva.com/14313/sces593e-14313482.pdf; ComponentLink6URL: https://datasheet.ciiva.com/14292/sn74aup1g80-14292862.pdf; ComponentLink6Description: https://datasheet.ciiva.com/14292/sn74aup1g80-14292862.pdf
footprint DBV0005A_L (SOT23, 5-Leads, Body 3.05x1.75mm, Pitch 0.95mm, IPC High Density)
pins: 1 D (in), 2 CLK (in), 3 GND (power), 4 ~{Q} (out), 5 VCC (power)

## TI-SN74XXX1XX4-XX-5
designator U?
SN74AHC1G04DBVR; Manufacturer: Texas Instruments; Description 1: IC SINGLE INVERTER GATE SOT23-5; Logic Function: Buffer,Inverter,Inverting; Number of Elements: 1; Max Output Current: 8mA; Max Supply Voltage: 5.5V; Min Supply Voltage: 2V; Propagation Delay: 7.5ns; Quiescent Current: 1uA; High Level Output Current: -8mA; Turn-On Delay Time: 12ns; Schmitt Trigger Input: No; Supplier 1: Mouser; Supplier Part Number 1: 595-SN74AHC1G04DBVR; Manufacturer Part Number: SN74AHC1G04DBVR; Stock 1: 27929; Pricing 1: 1=0.43, 10=0.289, 50=0.289, 100=0.137, 1000=0.106, 10000=0.08 (USD); Mount: Surface Mount; Case/Package: SOT-23; Number of Pins: 5; Weight: 0.000557oz; Contact Plating: Tin,Matte; Min Operating Temperature: -40°C; Max Operating Temperature: 125°C; Packaging: Tape and Reel; Package Quantity: 1; Number of Inputs: 1; Output Current: 8mA; Number of Gates: 1; Number of Circuits: 1; Low Level Output Current: 8mA; Termination: SMD/SMT; Number of Bits: 1; Length: 2.9mm; Height: 1.15mm; Width: 1.6mm; Radiation Hardening: No; REACH SVHC: No SVHC; Lead Free: Lead Free; ComponentLink1URL: https://datasheet.ciiva.com/4827/scls318q-100390-4827313.pdf; ComponentLink1Description: https://datasheet.ciiva.com/4827/scls318q-100390-4827313.pdf; ComponentLink2URL: https://datasheet.ciiva.com/1864/sn74ahc1g04-1864386.pdf; ComponentLink2Description: https://datasheet.ciiva.com/1864/sn74ahc1g04-1864386.pdf; ComponentLink3URL: https://datasheet.ciiva.com/14132/sn74ahc1g04-eng-tds-14132658.pdf; ComponentLink3Description: https://datasheet.ciiva.com/14132/sn74ahc1g04-eng-tds-14132658.pdf; ComponentLink4URL: https://datasheet.ciiva.com/1864/sn74ahc1g04-1864387.pdf; ComponentLink4Description: https://datasheet.ciiva.com/1864/sn74ahc1g04-1864387.pdf; ComponentLink5URL: https://datasheet.ciiva.com/1864/sn74ahc1g04-1864388.pdf; ComponentLink5Description: https://datasheet.ciiva.com/1864/sn74ahc1g04-1864388.pdf; ComponentLink6URL: https://datasheet.ciiva.com/15089/getdatasheetpartid-190014-15089365.pdf; ComponentLink6Description: https://datasheet.ciiva.com/15089/getdatasheetpartid-190014-15089365.pdf; ComponentLink7URL: https://datasheet.ciiva.com/46384/1882758-46384389.pdf; ComponentLink7Description: https://datasheet.ciiva.com/46384/1882758-46384389.pdf; ComponentLink8URL: https://datasheet.ciiva.com/46430/1834091-46430923.pdf; ComponentLink8Description: https://datasheet.ciiva.com/46430/1834091-46430923.pdf; ComponentLink9URL: https://datasheet.ciiva.com/4219/1511sn74ahc1g04-4219564.pdf; ComponentLink9Description: https://datasheet.ciiva.com/4219/1511sn74ahc1g04-4219564.pdf; ComponentLink10URL: https://datasheet.ciiva.com/7783/1759812-7783196.pdf; ComponentLink10Description: https://datasheet.ciiva.com/7783/1759812-7783196.pdf; ComponentLink11URL: https://datasheet.ciiva.com/16464/sn74ahc1g04-16464940.pdf; ComponentLink11Description: https://datasheet.ciiva.com/16464/sn74ahc1g04-16464940.pdf; ComponentLink12URL: https://datasheet.ciiva.com/7783/1759812-7783197.pdf; ComponentLink12Description: https://datasheet.ciiva.com/7783/1759812-7783197.pdf; ComponentLink13URL: https://datasheet.ciiva.com/27052/1384368-27052143.pdf; ComponentLink13Description: https://datasheet.ciiva.com/27052/1384368-27052143.pdf; ComponentLink14URL: https://datasheet.ciiva.com/48703/001074492-da-01-en-ic-single-i-sn74ahc1g04dbvr-sot-23-5-tid-48703786.pdf; ComponentLink14Description: https://datasheet.ciiva.com/48703/001074492-da-01-en-ic-single-i-sn74ahc1g04dbvr-sot-23-5-tid-48703786.pdf
footprint DBV0005A_M (SOT23, 5-Leads, Body 3.05x1.75mm, Pitch 0.95mm, IPC Low Density)
pins: 1 NC "Ground", 2 A (in) "Input A", 3 GND (power) "Ground Pin", 4 Y (out) "Output Y", 5 VCC (power) "Power Pin"

## TMP116
designator U?
Manufacturer: Texas Instruments; Manufacturer Part Number: TMP116AIDRVT; Interface: I2C,SMBus,2-Wire; Supplier 1: Digi-Key; Supplier Part Number 1: 296-46944-1-ND; Stock 1: 995; Pricing 1: 1=4.01, 10=3.599, 100=2.9485 (USD); Min Operating Temperature: -55°C; Max Operating Temperature: 150°C
footprint WSON-6 (SON, 6-Leads, Body 2x2mm, Pitch 0.65mm, Thermal Pad 1X1.6mm)
pins: 1 SCL, 2 GND, 3 ALERT, 4 ADD0, 5 V+, 6 SDA, 7 GND

## TMP116EVM
designator J?
footprint Header 5x1 8.5mm (Stackable 5 pin header)
pins: 1 V+, 2 SDA, 3 GND, 4 SCL, 5 ALERT

## XSL-365-LED
designator D?, comment UV  (value not drawn)
LED, Through Hole 3mm; Wavelength: 355/360/365/370; Category: Optoelectronics; Color: UV
footprint 3mm LED (UV LED)
pins: A, K